# EAGLE library part 47352-1001 (library 47352-1001 - SD Card Holder)
Check availability <https://pricing.snapeda.com/parts/47352-1001/Molex/view-part?ref=eda>
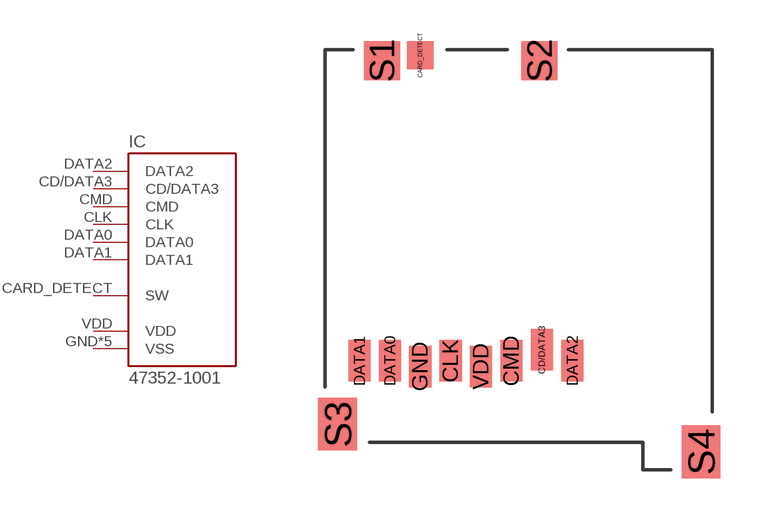
[diagram p0: symbol with the pads of SMD; footprint SMD]

Designator prefix IC

## 47352-1001  [SMD]
CARD_DETECT  SW  hiz
CD/DATA3  CD/DATA3
CLK  CLK  in
CMD  CMD
DATA0  DATA0
DATA1  DATA1
DATA2  DATA2
GND  VSS  pwr
S1  VSS  pwr
S2  VSS  pwr
S3  VSS  pwr
S4  VSS  pwr
VDD  VDD  pwr

## Footprint SMD (pad centres in mm)
smd 0.95 x 1: CARD_DETECT -3.56,7.4
smd 0.8 x 1.5: CD/DATA3 0.84,-3.26; CLK -2.46,-3.66; CMD -0.26,-3.66; DATA0 -4.66,-3.66; DATA1 -5.76,-3.66; DATA2 1.94,-3.66; GND -3.56,-3.86; VDD -1.36,-3.86
smd 1.3 x 1.4: S1 -4.95,7.2; S2 0.75,7.2
smd 1.4 x 1.9: S3 -6.55,-5.95; S4 6.6,-6.95